# Altium schematic symbol library DF3A6_8F,LF.SchLib: 1 symbol
Pins are listed as number, name and electrical type; pins without a type are passive.

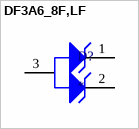
[diagram p0: symbol DF3A6_8F,LF]

## DF3A6_8F,LF
designator D?
footprint SOT-23-3
pins: 1 K1, 2 K2, 3 A